# EAGLE library part SWITCH_W_LED_PB6149L-X-102 (library zephod-components)
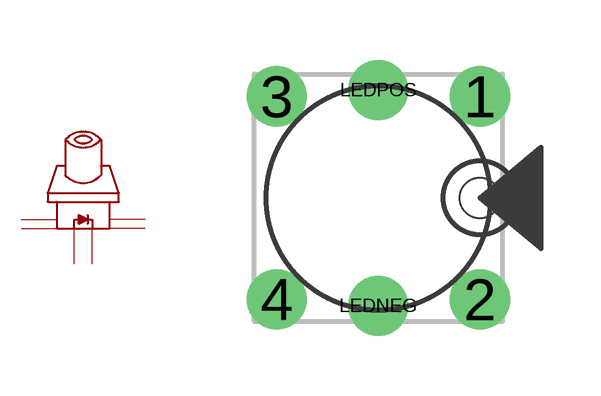
[diagram p11: symbol with the pads of PB6149L; footprint PB6149L]

Designator prefix S

## SWITCH_W_LED_PB6149L-X-102RED  [PB6149L]
1  1
2  2
3  3
4  4
LEDNEG  NEG
LEDPOS  POS

## SWITCH_W_LED_PB6149L-X-102WHITE  [PB6149L]
Pads as for PB6149L

## SWITCH_W_LED_PB6149L-X-102BLUE  [PB6149L]
Pads as for PB6149L

## SWITCH_W_LED_PB6149L-X-102GREEN  [PB6149L]
Pads as for PB6149L

## SWITCH_W_LED_PB6149L-X-102YELLOW  [PB6149L]
Pads as for PB6149L

## Footprint PB6149L (pad centres in mm)
drill 1: 1 2.54,2.54; 2 2.54,-2.54; 3 -2.54,2.54; 4 -2.54,-2.54; LEDNEG 0,-2.7; LEDPOS 0,2.7
hole 1 at 2.54,0